# Altium footprint library TerminalBlock_Altech.PcbLib: 46 footprints (part 3 of 4)
Each footprint in its own frame and in the unit in brackets; x right, y up, seen from the top. Pads: shape width x height; smd on the part's side, far side on the other; paste and mask are expansions set on the pad; w line width, h text height; cw(c..) or ccw(c..) is an arc to the next point about the centre after c.
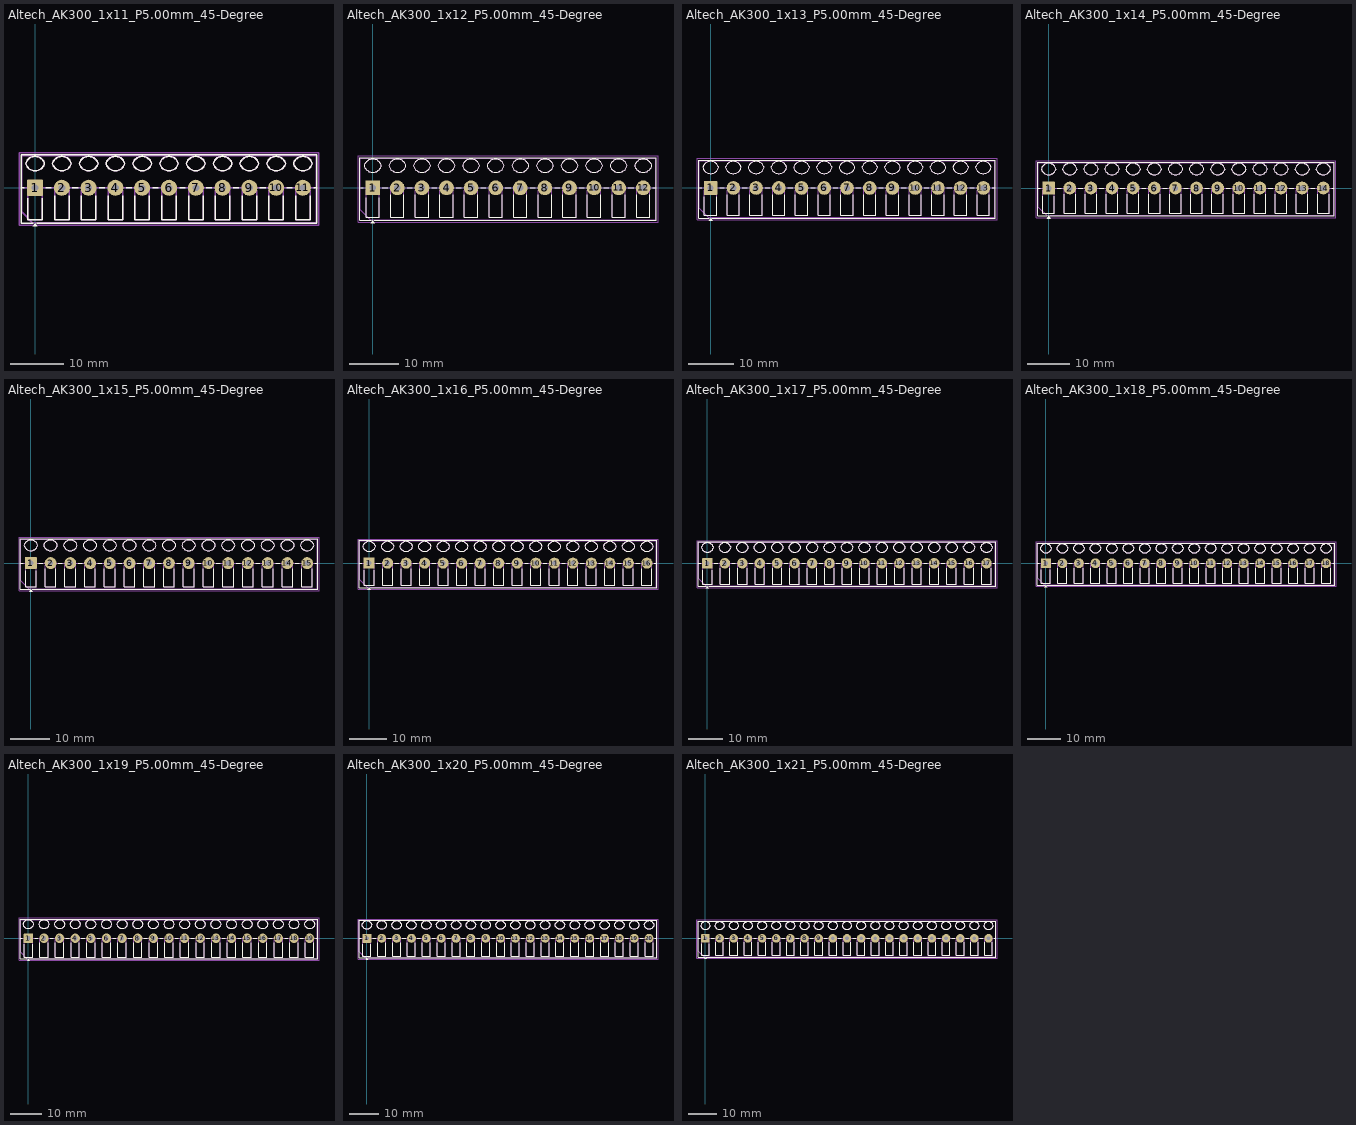
[diagram p2: the footprints below, top view; thin cyan lines are the x and y axes]

## Altech_AK300_1x11_P5.00mm_45-Degree [mm]
pads (11):
  rrect8% 3x3 hole 1.3: 1(0,0)
  round 3 hole 1.3: 2(5,0) 3(10,0) 4(15,0) 5(20,0) 6(25,0) 7(30,0) 8(35,0) 9(40,0) 10(45,0) 11(50,0)
F.SilkS:
  region: 0.44,-7.23 -0.44,-7.23 0,-6.62
  lines w0.254: -2.62,0 -1.98,0 ; -1.35,-1.98 -1.35,-6 1.35,-6 1.35,-1.98 ; -0.3,-6.62 -2.62,-6.62 -2.62,6.12 52.62,6.12 52.62,-6.62 0.3,-6.62 ; 1.98,0 3.02,0 ; 3.65,-1.448 3.65,-6 6.35,-6 6.35,-1.448 ; 6.98,0 8.02,0 ; 8.65,-1.448 8.65,-6 11.35,-6 11.35,-1.448 ; 11.98,0 13.02,0 ; 13.65,-1.448 13.65,-6 16.35,-6 16.35,-1.448 ; 16.98,0 18.02,0 ; 18.65,-1.448 18.65,-6 21.35,-6 21.35,-1.448 ; 21.98,0 23.02,0 ; 23.65,-1.448 23.65,-6 26.35,-6 26.35,-1.448 ; 26.98,0 28.02,0 ; 28.65,-1.448 28.65,-6 31.35,-6 31.35,-1.448 ; 31.98,0 33.02,0 ; 33.65,-1.448 33.65,-6 36.35,-6 36.35,-1.448 ; 36.98,0 38.02,0 ; 38.65,-1.448 38.65,-6 41.35,-6 41.35,-1.448 ; 41.98,0 43.02,0 ; 43.65,-1.448 43.65,-6 46.35,-6 46.35,-1.448 ; 46.98,0 48.02,0 ; 48.65,-1.448 48.65,-6 51.35,-6 51.35,-1.448 ; 51.98,0 52.62,0 ; -1.75,4.5 cw(c0,4.041) 1.75,4.5 cw(c0,4.959) -1.75,4.5 ; 3.25,4.5 cw(c5,4.041) 6.75,4.5 cw(c5,4.959) 3.25,4.5 ; 8.25,4.5 cw(c10,4.041) 11.75,4.5 cw(c10,4.959) 8.25,4.5 ; 13.25,4.5 cw(c15,4.041) 16.75,4.5 cw(c15,4.959) 13.25,4.5 ; 18.25,4.5 cw(c20,4.041) 21.75,4.5 cw(c20,4.959) 18.25,4.5 ; 23.25,4.5 cw(c25,4.041) 26.75,4.5 cw(c25,4.959) 23.25,4.5 ; 28.25,4.5 cw(c30,4.041) 31.75,4.5 cw(c30,4.959) 28.25,4.5 ; 33.25,4.5 cw(c35,4.041) 36.75,4.5 cw(c35,4.959) 33.25,4.5 ; 38.25,4.5 cw(c40,4.041) 41.75,4.5 cw(c40,4.959) 38.25,4.5 ; 43.25,4.5 cw(c45,4.041) 46.75,4.5 cw(c45,4.959) 43.25,4.5 ; 48.25,4.5 cw(c50,4.041) 51.75,4.5 cw(c50,4.959) 48.25,4.5
F.Fab:
  lines w0.254: -2.5,0 52.5,0 ; -2.5,-4.5 -2.5,6 52.5,6 52.5,-6.5 -0.5,-6.5 -2.5,-4.5 ; -1.75,4.5 cw(c0,4.041) 1.75,4.5 cw(c0,4.959) -1.75,4.5 ; -1.35,-6 -1.35,-0.5 1.35,-0.5 1.35,-6 -1.35,-6 ; 3.25,4.5 cw(c5,4.041) 6.75,4.5 cw(c5,4.959) 3.25,4.5 ; 3.65,-6 3.65,-0.5 6.35,-0.5 6.35,-6 3.65,-6 ; 8.25,4.5 cw(c10,4.041) 11.75,4.5 cw(c10,4.959) 8.25,4.5 ; 8.65,-6 8.65,-0.5 11.351,-0.5 11.351,-6 8.65,-6 ; 13.25,4.5 cw(c15,4.041) 16.75,4.5 cw(c15,4.959) 13.25,4.5 ; 13.65,-6 13.65,-0.5 16.351,-0.5 16.351,-6 13.65,-6 ; 18.25,4.5 cw(c20,4.041) 21.75,4.5 cw(c20,4.959) 18.25,4.5 ; 18.65,-6 18.65,-0.5 21.35,-0.5 21.35,-6 18.65,-6 ; 23.25,4.5 cw(c25,4.041) 26.75,4.5 cw(c25,4.959) 23.25,4.5 ; 23.65,-6 23.65,-0.5 26.35,-0.5 26.35,-6 23.65,-6 ; 28.25,4.5 cw(c30,4.041) 31.75,4.5 cw(c30,4.959) 28.25,4.5 ; 28.65,-6 28.65,-0.5 31.35,-0.5 31.35,-6 28.65,-6 ; 33.25,4.5 cw(c35,4.041) 36.75,4.5 cw(c35,4.959) 33.25,4.5 ; 33.65,-6 33.65,-0.5 36.35,-0.5 36.35,-6 33.65,-6 ; 38.25,4.5 cw(c40,4.041) 41.75,4.5 cw(c40,4.959) 38.25,4.5 ; 38.65,-6 38.65,-0.5 41.35,-0.5 41.35,-6 38.65,-6 ; 43.25,4.5 cw(c45,4.041) 46.75,4.5 cw(c45,4.959) 43.25,4.5 ; 43.65,-6 43.65,-0.5 46.35,-0.5 46.35,-6 43.65,-6 ; 48.25,4.5 cw(c50,4.041) 51.75,4.5 cw(c50,4.959) 48.25,4.5 ; 48.65,-6 48.65,-0.5 51.35,-0.5 51.35,-6 48.65,-6
  text "'.Designator'" at 20.953,0.11 h1
F.CrtYd:
  lines w0.254: -3,-7 -3,6.5 53,6.5 53,-7 -3,-7
3D body "Altech_AK300_1x11_P5.00mm_45-Degree.step": height 12.6, standoff -4.5, extent -2.5,-6.5 52.5,6

## Altech_AK300_1x12_P5.00mm_45-Degree [mm]
pads (12):
  rrect8% 3x3 hole 1.3: 1(0,0)
  round 3 hole 1.3: 2(5,0) 3(10,0) 4(15,0) 5(20,0) 6(25,0) 7(30,0) 8(35,0) 9(40,0) 10(45,0) 11(50,0) 12(55,0)
F.SilkS:
  region: 0.44,-7.23 -0.44,-7.23 0,-6.62
  lines w0.254: -2.62,0 -1.98,0 ; -1.35,-1.98 -1.35,-6 1.35,-6 1.35,-1.98 ; -0.3,-6.62 -2.62,-6.62 -2.62,6.12 57.62,6.12 57.62,-6.62 0.3,-6.62 ; 1.98,0 3.02,0 ; 3.65,-1.448 3.65,-6 6.35,-6 6.35,-1.448 ; 6.98,0 8.02,0 ; 8.65,-1.448 8.65,-6 11.35,-6 11.35,-1.448 ; 11.98,0 13.02,0 ; 13.65,-1.448 13.65,-6 16.35,-6 16.35,-1.448 ; 16.98,0 18.02,0 ; 18.65,-1.448 18.65,-6 21.35,-6 21.35,-1.448 ; 21.98,0 23.02,0 ; 23.65,-1.448 23.65,-6 26.35,-6 26.35,-1.448 ; 26.98,0 28.02,0 ; 28.65,-1.448 28.65,-6 31.35,-6 31.35,-1.448 ; 31.98,0 33.02,0 ; 33.65,-1.448 33.65,-6 36.35,-6 36.35,-1.448 ; 36.98,0 38.02,0 ; 38.65,-1.448 38.65,-6 41.35,-6 41.35,-1.448 ; 41.98,0 43.02,0 ; 43.65,-1.448 43.65,-6 46.35,-6 46.35,-1.448 ; 46.98,0 48.02,0 ; 48.65,-1.448 48.65,-6 51.35,-6 51.35,-1.448 ; 51.98,0 53.02,0 ; 53.65,-1.448 53.65,-6 56.35,-6 56.35,-1.448 ; 56.98,0 57.62,0 ; -1.75,4.5 cw(c0,4.041) 1.75,4.5 cw(c0,4.959) -1.75,4.5 ; 3.25,4.5 cw(c5,4.041) 6.75,4.5 cw(c5,4.959) 3.25,4.5 ; 8.25,4.5 cw(c10,4.041) 11.75,4.5 cw(c10,4.959) 8.25,4.5 ; 13.25,4.5 cw(c15,4.041) 16.75,4.5 cw(c15,4.959) 13.25,4.5 ; 18.25,4.5 cw(c20,4.041) 21.75,4.5 cw(c20,4.959) 18.25,4.5 ; 23.25,4.5 cw(c25,4.041) 26.75,4.5 cw(c25,4.959) 23.25,4.5 ; 28.25,4.5 cw(c30,4.041) 31.75,4.5 cw(c30,4.959) 28.25,4.5 ; 33.25,4.5 cw(c35,4.041) 36.75,4.5 cw(c35,4.959) 33.25,4.5 ; 38.25,4.5 cw(c40,4.041) 41.75,4.5 cw(c40,4.959) 38.25,4.5 ; 43.25,4.5 cw(c45,4.041) 46.75,4.5 cw(c45,4.959) 43.25,4.5 ; 48.25,4.5 cw(c50,4.041) 51.75,4.5 cw(c50,4.959) 48.25,4.5 ; 53.25,4.5 cw(c55,4.041) 56.75,4.5 cw(c55,4.959) 53.25,4.5
F.Fab:
  lines w0.254: -2.5,0 57.5,0 ; -2.5,-4.5 -2.5,6 57.5,6 57.5,-6.5 -0.5,-6.5 -2.5,-4.5 ; -1.75,4.5 cw(c0,4.041) 1.75,4.5 cw(c0,4.959) -1.75,4.5 ; -1.35,-6 -1.35,-0.5 1.35,-0.5 1.35,-6 -1.35,-6 ; 3.25,4.5 cw(c5,4.041) 6.75,4.5 cw(c5,4.959) 3.25,4.5 ; 3.65,-6 3.65,-0.5 6.35,-0.5 6.35,-6 3.65,-6 ; 8.25,4.5 cw(c10,4.041) 11.75,4.5 cw(c10,4.959) 8.25,4.5 ; 8.65,-6 8.65,-0.5 11.351,-0.5 11.351,-6 8.65,-6 ; 13.25,4.5 cw(c15,4.041) 16.75,4.5 cw(c15,4.959) 13.25,4.5 ; 13.65,-6 13.65,-0.5 16.351,-0.5 16.351,-6 13.65,-6 ; 18.25,4.5 cw(c20,4.041) 21.75,4.5 cw(c20,4.959) 18.25,4.5 ; 18.65,-6 18.65,-0.5 21.35,-0.5 21.35,-6 18.65,-6 ; 23.25,4.5 cw(c25,4.041) 26.75,4.5 cw(c25,4.959) 23.25,4.5 ; 23.65,-6 23.65,-0.5 26.35,-0.5 26.35,-6 23.65,-6 ; 28.25,4.5 cw(c30,4.041) 31.75,4.5 cw(c30,4.959) 28.25,4.5 ; 28.65,-6 28.65,-0.5 31.35,-0.5 31.35,-6 28.65,-6 ; 33.25,4.5 cw(c35,4.041) 36.75,4.5 cw(c35,4.959) 33.25,4.5 ; 33.65,-6 33.65,-0.5 36.35,-0.5 36.35,-6 33.65,-6 ; 38.25,4.5 cw(c40,4.041) 41.75,4.5 cw(c40,4.959) 38.25,4.5 ; 38.65,-6 38.65,-0.5 41.35,-0.5 41.35,-6 38.65,-6 ; 43.25,4.5 cw(c45,4.041) 46.75,4.5 cw(c45,4.959) 43.25,4.5 ; 43.65,-6 43.65,-0.5 46.35,-0.5 46.35,-6 43.65,-6 ; 48.25,4.5 cw(c50,4.041) 51.75,4.5 cw(c50,4.959) 48.25,4.5 ; 48.65,-6 48.65,-0.5 51.35,-0.5 51.35,-6 48.65,-6 ; 53.25,4.5 cw(c55,4.041) 56.75,4.5 cw(c55,4.959) 53.25,4.5 ; 53.65,-6 53.65,-0.5 56.35,-0.5 56.35,-6 53.65,-6
  text "'.Designator'" at 23.453,0.11 h1
F.CrtYd:
  lines w0.254: -3,-7 -3,6.5 58,6.5 58,-7 -3,-7
3D body "Altech_AK300_1x12_P5.00mm_45-Degree.step": height 12.6, standoff -4.5, extent -2.5,-6.5 57.5,6

## Altech_AK300_1x13_P5.00mm_45-Degree [mm]
pads (13):
  rrect8% 3x3 hole 1.3: 1(0,0)
  round 3 hole 1.3: 2(5,0) 3(10,0) 4(15,0) 5(20,0) 6(25,0) 7(30,0) 8(35,0) 9(40,0) 10(45,0) 11(50,0) 12(55,0) 13(60,0)
F.SilkS:
  region: 0.44,-7.23 -0.44,-7.23 0,-6.62
  lines w0.254: -2.62,0 -1.98,0 ; -1.35,-1.98 -1.35,-6 1.35,-6 1.35,-1.98 ; -0.3,-6.62 -2.62,-6.62 -2.62,6.12 62.62,6.12 62.62,-6.62 0.3,-6.62 ; 1.98,0 3.02,0 ; 3.65,-1.448 3.65,-6 6.35,-6 6.35,-1.448 ; 6.98,0 8.02,0 ; 8.65,-1.448 8.65,-6 11.35,-6 11.35,-1.448 ; 11.98,0 13.02,0 ; 13.65,-1.448 13.65,-6 16.35,-6 16.35,-1.448 ; 16.98,0 18.02,0 ; 18.65,-1.448 18.65,-6 21.35,-6 21.35,-1.448 ; 21.98,0 23.02,0 ; 23.65,-1.448 23.65,-6 26.35,-6 26.35,-1.448 ; 26.98,0 28.02,0 ; 28.65,-1.448 28.65,-6 31.35,-6 31.35,-1.448 ; 31.98,0 33.02,0 ; 33.65,-1.448 33.65,-6 36.35,-6 36.35,-1.448 ; 36.98,0 38.02,0 ; 38.65,-1.448 38.65,-6 41.35,-6 41.35,-1.448 ; 41.98,0 43.02,0 ; 43.65,-1.448 43.65,-6 46.35,-6 46.35,-1.448 ; 46.98,0 48.02,0 ; 48.65,-1.448 48.65,-6 51.35,-6 51.35,-1.448 ; 51.98,0 53.02,0 ; 53.65,-1.448 53.65,-6 56.35,-6 56.35,-1.448 ; 56.98,0 58.02,0 ; 58.65,-1.448 58.65,-6 61.35,-6 61.35,-1.448 ; 61.98,0 62.62,0 ; -1.75,4.5 cw(c0,4.041) 1.75,4.5 cw(c0,4.959) -1.75,4.5 ; 3.25,4.5 cw(c5,4.041) 6.75,4.5 cw(c5,4.959) 3.25,4.5 ; 8.25,4.5 cw(c10,4.041) 11.75,4.5 cw(c10,4.959) 8.25,4.5 ; 13.25,4.5 cw(c15,4.041) 16.75,4.5 cw(c15,4.959) 13.25,4.5 ; 18.25,4.5 cw(c20,4.041) 21.75,4.5 cw(c20,4.959) 18.25,4.5 ; 23.25,4.5 cw(c25,4.041) 26.75,4.5 cw(c25,4.959) 23.25,4.5 ; 28.25,4.5 cw(c30,4.041) 31.75,4.5 cw(c30,4.959) 28.25,4.5 ; 33.25,4.5 cw(c35,4.041) 36.75,4.5 cw(c35,4.959) 33.25,4.5 ; 38.25,4.5 cw(c40,4.041) 41.75,4.5 cw(c40,4.959) 38.25,4.5 ; 43.25,4.5 cw(c45,4.041) 46.75,4.5 cw(c45,4.959) 43.25,4.5 ; 48.25,4.5 cw(c50,4.041) 51.75,4.5 cw(c50,4.959) 48.25,4.5 ; 53.25,4.5 cw(c55,4.041) 56.75,4.5 cw(c55,4.959) 53.25,4.5 ; 58.25,4.5 cw(c60,4.041) 61.75,4.5 cw(c60,4.959) 58.25,4.5
F.Fab:
  lines w0.254: -2.5,0 62.5,0 ; -2.5,-4.5 -2.5,6 62.5,6 62.5,-6.5 -0.5,-6.5 -2.5,-4.5 ; -1.75,4.5 cw(c0,4.041) 1.75,4.5 cw(c0,4.959) -1.75,4.5 ; -1.35,-6 -1.35,-0.5 1.35,-0.5 1.35,-6 -1.35,-6 ; 3.25,4.5 cw(c5,4.041) 6.75,4.5 cw(c5,4.959) 3.25,4.5 ; 3.65,-6 3.65,-0.5 6.35,-0.5 6.35,-6 3.65,-6 ; 8.25,4.5 cw(c10,4.041) 11.75,4.5 cw(c10,4.959) 8.25,4.5 ; 8.65,-6 8.65,-0.5 11.351,-0.5 11.351,-6 8.65,-6 ; 13.25,4.5 cw(c15,4.041) 16.75,4.5 cw(c15,4.959) 13.25,4.5 ; 13.65,-6 13.65,-0.5 16.351,-0.5 16.351,-6 13.65,-6 ; 18.25,4.5 cw(c20,4.041) 21.75,4.5 cw(c20,4.959) 18.25,4.5 ; 18.65,-6 18.65,-0.5 21.35,-0.5 21.35,-6 18.65,-6 ; 23.25,4.5 cw(c25,4.041) 26.75,4.5 cw(c25,4.959) 23.25,4.5 ; 23.65,-6 23.65,-0.5 26.35,-0.5 26.35,-6 23.65,-6 ; 28.25,4.5 cw(c30,4.041) 31.75,4.5 cw(c30,4.959) 28.25,4.5 ; 28.65,-6 28.65,-0.5 31.35,-0.5 31.35,-6 28.65,-6 ; 33.25,4.5 cw(c35,4.041) 36.75,4.5 cw(c35,4.959) 33.25,4.5 ; 33.65,-6 33.65,-0.5 36.35,-0.5 36.35,-6 33.65,-6 ; 38.25,4.5 cw(c40,4.041) 41.75,4.5 cw(c40,4.959) 38.25,4.5 ; 38.65,-6 38.65,-0.5 41.35,-0.5 41.35,-6 38.65,-6 ; 43.25,4.5 cw(c45,4.041) 46.75,4.5 cw(c45,4.959) 43.25,4.5 ; 43.65,-6 43.65,-0.5 46.35,-0.5 46.35,-6 43.65,-6 ; 48.25,4.5 cw(c50,4.041) 51.75,4.5 cw(c50,4.959) 48.25,4.5 ; 48.65,-6 48.65,-0.5 51.35,-0.5 51.35,-6 48.65,-6 ; 53.25,4.5 cw(c55,4.041) 56.75,4.5 cw(c55,4.959) 53.25,4.5 ; 53.65,-6 53.65,-0.5 56.35,-0.5 56.35,-6 53.65,-6 ; 58.25,4.5 cw(c60,4.041) 61.75,4.5 cw(c60,4.959) 58.25,4.5 ; 58.65,-6 58.65,-0.5 61.35,-0.5 61.35,-6 58.65,-6
  text "'.Designator'" at 25.953,0.11 h1
F.CrtYd:
  lines w0.254: -3,-7 -3,6.5 63,6.5 63,-7 -3,-7
3D body "Altech_AK300_1x13_P5.00mm_45-Degree.step": height 12.6, standoff -4.5, extent -2.5,-6.5 62.5,6

## Altech_AK300_1x14_P5.00mm_45-Degree [mm]
pads (14):
  rrect8% 3x3 hole 1.3: 1(0,0)
  round 3 hole 1.3: 2(5,0) 3(10,0) 4(15,0) 5(20,0) 6(25,0) 7(30,0) 8(35,0) 9(40,0) 10(45,0) 11(50,0) 12(55,0) 13(60,0) 14(65,0)
F.SilkS:
  region: 0.44,-7.23 -0.44,-7.23 0,-6.62
  lines w0.254: -2.62,0 -1.98,0 ; -1.35,-1.98 -1.35,-6 1.35,-6 1.35,-1.98 ; -0.3,-6.62 -2.62,-6.62 -2.62,6.12 67.62,6.12 67.62,-6.62 0.3,-6.62 ; 1.98,0 3.02,0 ; 3.65,-1.448 3.65,-6 6.35,-6 6.35,-1.448 ; 6.98,0 8.02,0 ; 8.65,-1.448 8.65,-6 11.35,-6 11.35,-1.448 ; 11.98,0 13.02,0 ; 13.65,-1.448 13.65,-6 16.35,-6 16.35,-1.448 ; 16.98,0 18.02,0 ; 18.65,-1.448 18.65,-6 21.35,-6 21.35,-1.448 ; 21.98,0 23.02,0 ; 23.65,-1.448 23.65,-6 26.35,-6 26.35,-1.448 ; 26.98,0 28.02,0 ; 28.65,-1.448 28.65,-6 31.35,-6 31.35,-1.448 ; 31.98,0 33.02,0 ; 33.65,-1.448 33.65,-6 36.35,-6 36.35,-1.448 ; 36.98,0 38.02,0 ; 38.65,-1.448 38.65,-6 41.35,-6 41.35,-1.448 ; 41.98,0 43.02,0 ; 43.65,-1.448 43.65,-6 46.35,-6 46.35,-1.448 ; 46.98,0 48.02,0 ; 48.65,-1.448 48.65,-6 51.35,-6 51.35,-1.448 ; 51.98,0 53.02,0 ; 53.65,-1.448 53.65,-6 56.35,-6 56.35,-1.448 ; 56.98,0 58.02,0 ; 58.65,-1.448 58.65,-6 61.35,-6 61.35,-1.448 ; 61.98,0 63.02,0 ; 63.65,-1.448 63.65,-6 66.35,-6 66.35,-1.448 ; 66.98,0 67.62,0 ; -1.75,4.5 cw(c0,4.041) 1.75,4.5 cw(c0,4.959) -1.75,4.5 ; 3.25,4.5 cw(c5,4.041) 6.75,4.5 cw(c5,4.959) 3.25,4.5 ; 8.25,4.5 cw(c10,4.041) 11.75,4.5 cw(c10,4.959) 8.25,4.5 ; 13.25,4.5 cw(c15,4.041) 16.75,4.5 cw(c15,4.959) 13.25,4.5 ; 18.25,4.5 cw(c20,4.041) 21.75,4.5 cw(c20,4.959) 18.25,4.5 ; 23.25,4.5 cw(c25,4.041) 26.75,4.5 cw(c25,4.959) 23.25,4.5 ; 28.25,4.5 cw(c30,4.041) 31.75,4.5 cw(c30,4.959) 28.25,4.5 ; 33.25,4.5 cw(c35,4.041) 36.75,4.5 cw(c35,4.959) 33.25,4.5 ; 38.25,4.5 cw(c40,4.041) 41.75,4.5 cw(c40,4.959) 38.25,4.5 ; 43.25,4.5 cw(c45,4.041) 46.75,4.5 cw(c45,4.959) 43.25,4.5 ; 48.25,4.5 cw(c50,4.041) 51.75,4.5 cw(c50,4.959) 48.25,4.5 ; 53.25,4.5 cw(c55,4.041) 56.75,4.5 cw(c55,4.959) 53.25,4.5 ; 58.25,4.5 cw(c60,4.041) 61.75,4.5 cw(c60,4.959) 58.25,4.5 ; 63.25,4.5 cw(c65,4.041) 66.75,4.5 cw(c65,4.959) 63.25,4.5
F.Fab:
  lines w0.254: -2.5,0 67.5,0 ; -2.5,-4.5 -2.5,6 67.5,6 67.5,-6.5 -0.5,-6.5 -2.5,-4.5 ; -1.75,4.5 cw(c0,4.041) 1.75,4.5 cw(c0,4.959) -1.75,4.5 ; -1.35,-6 -1.35,-0.5 1.35,-0.5 1.35,-6 -1.35,-6 ; 3.25,4.5 cw(c5,4.041) 6.75,4.5 cw(c5,4.959) 3.25,4.5 ; 3.65,-6 3.65,-0.5 6.35,-0.5 6.35,-6 3.65,-6 ; 8.25,4.5 cw(c10,4.041) 11.75,4.5 cw(c10,4.959) 8.25,4.5 ; 8.65,-6 8.65,-0.5 11.351,-0.5 11.351,-6 8.65,-6 ; 13.25,4.5 cw(c15,4.041) 16.75,4.5 cw(c15,4.959) 13.25,4.5 ; 13.65,-6 13.65,-0.5 16.351,-0.5 16.351,-6 13.65,-6 ; 18.25,4.5 cw(c20,4.041) 21.75,4.5 cw(c20,4.959) 18.25,4.5 ; 18.65,-6 18.65,-0.5 21.35,-0.5 21.35,-6 18.65,-6 ; 23.25,4.5 cw(c25,4.041) 26.75,4.5 cw(c25,4.959) 23.25,4.5 ; 23.65,-6 23.65,-0.5 26.35,-0.5 26.35,-6 23.65,-6 ; 28.25,4.5 cw(c30,4.041) 31.75,4.5 cw(c30,4.959) 28.25,4.5 ; 28.65,-6 28.65,-0.5 31.35,-0.5 31.35,-6 28.65,-6 ; 33.25,4.5 cw(c35,4.041) 36.75,4.5 cw(c35,4.959) 33.25,4.5 ; 33.65,-6 33.65,-0.5 36.35,-0.5 36.35,-6 33.65,-6 ; 38.25,4.5 cw(c40,4.041) 41.75,4.5 cw(c40,4.959) 38.25,4.5 ; 38.65,-6 38.65,-0.5 41.35,-0.5 41.35,-6 38.65,-6 ; 43.25,4.5 cw(c45,4.041) 46.75,4.5 cw(c45,4.959) 43.25,4.5 ; 43.65,-6 43.65,-0.5 46.35,-0.5 46.35,-6 43.65,-6 ; 48.25,4.5 cw(c50,4.041) 51.75,4.5 cw(c50,4.959) 48.25,4.5 ; 48.65,-6 48.65,-0.5 51.35,-0.5 51.35,-6 48.65,-6 ; 53.25,4.5 cw(c55,4.041) 56.75,4.5 cw(c55,4.959) 53.25,4.5 ; 53.65,-6 53.65,-0.5 56.35,-0.5 56.35,-6 53.65,-6 ; 58.25,4.5 cw(c60,4.041) 61.75,4.5 cw(c60,4.959) 58.25,4.5 ; 58.65,-6 58.65,-0.5 61.35,-0.5 61.35,-6 58.65,-6 ; 63.25,4.5 cw(c65,4.041) 66.75,4.5 cw(c65,4.959) 63.25,4.5 ; 63.65,-6 63.65,-0.5 66.35,-0.5 66.35,-6 63.65,-6
  text "'.Designator'" at 28.453,0.11 h1
F.CrtYd:
  lines w0.254: -3,-7 -3,6.5 68,6.5 68,-7 -3,-7
3D body "Altech_AK300_1x14_P5.00mm_45-Degree.step": height 12.6, standoff -4.5, extent -2.5,-6.5 67.5,6

## Altech_AK300_1x15_P5.00mm_45-Degree [mm]
pads (15):
  rrect8% 3x3 hole 1.3: 1(0,0)
  round 3 hole 1.3: 2(5,0) 3(10,0) 4(15,0) 5(20,0) 6(25,0) 7(30,0) 8(35,0) 9(40,0) 10(45,0) 11(50,0) 12(55,0) 13(60,0) 14(65,0) 15(70,0)
F.SilkS:
  region: 0.44,-7.23 -0.44,-7.23 0,-6.62
  lines w0.254: -2.62,0 -1.98,0 ; -1.35,-1.98 -1.35,-6 1.35,-6 1.35,-1.98 ; -0.3,-6.62 -2.62,-6.62 -2.62,6.12 72.62,6.12 72.62,-6.62 0.3,-6.62 ; 1.98,0 3.02,0 ; 3.65,-1.448 3.65,-6 6.35,-6 6.35,-1.448 ; 6.98,0 8.02,0 ; 8.65,-1.448 8.65,-6 11.35,-6 11.35,-1.448 ; 11.98,0 13.02,0 ; 13.65,-1.448 13.65,-6 16.35,-6 16.35,-1.448 ; 16.98,0 18.02,0 ; 18.65,-1.448 18.65,-6 21.35,-6 21.35,-1.448 ; 21.98,0 23.02,0 ; 23.65,-1.448 23.65,-6 26.35,-6 26.35,-1.448 ; 26.98,0 28.02,0 ; 28.65,-1.448 28.65,-6 31.35,-6 31.35,-1.448 ; 31.98,0 33.02,0 ; 33.65,-1.448 33.65,-6 36.35,-6 36.35,-1.448 ; 36.98,0 38.02,0 ; 38.65,-1.448 38.65,-6 41.35,-6 41.35,-1.448 ; 41.98,0 43.02,0 ; 43.65,-1.448 43.65,-6 46.35,-6 46.35,-1.448 ; 46.98,0 48.02,0 ; 48.65,-1.448 48.65,-6 51.35,-6 51.35,-1.448 ; 51.98,0 53.02,0 ; 53.65,-1.448 53.65,-6 56.35,-6 56.35,-1.448 ; 56.98,0 58.02,0 ; 58.65,-1.448 58.65,-6 61.35,-6 61.35,-1.448 ; 61.98,0 63.02,0 ; 63.65,-1.448 63.65,-6 66.35,-6 66.35,-1.448 ; 66.98,0 68.02,0 ; 68.65,-1.448 68.65,-6 71.35,-6 71.35,-1.448 ; 71.98,0 72.62,0 ; -1.75,4.5 cw(c0,4.041) 1.75,4.5 cw(c0,4.959) -1.75,4.5 ; 3.25,4.5 cw(c5,4.041) 6.75,4.5 cw(c5,4.959) 3.25,4.5 ; 8.25,4.5 cw(c10,4.041) 11.75,4.5 cw(c10,4.959) 8.25,4.5 ; 13.25,4.5 cw(c15,4.041) 16.75,4.5 cw(c15,4.959) 13.25,4.5 ; 18.25,4.5 cw(c20,4.041) 21.75,4.5 cw(c20,4.959) 18.25,4.5 ; 23.25,4.5 cw(c25,4.041) 26.75,4.5 cw(c25,4.959) 23.25,4.5 ; 28.25,4.5 cw(c30,4.041) 31.75,4.5 cw(c30,4.959) 28.25,4.5 ; 33.25,4.5 cw(c35,4.041) 36.75,4.5 cw(c35,4.959) 33.25,4.5 ; 38.25,4.5 cw(c40,4.041) 41.75,4.5 cw(c40,4.959) 38.25,4.5 ; 43.25,4.5 cw(c45,4.041) 46.75,4.5 cw(c45,4.959) 43.25,4.5 ; 48.25,4.5 cw(c50,4.041) 51.75,4.5 cw(c50,4.959) 48.25,4.5 ; 53.25,4.5 cw(c55,4.041) 56.75,4.5 cw(c55,4.959) 53.25,4.5 ; 58.25,4.5 cw(c60,4.041) 61.75,4.5 cw(c60,4.959) 58.25,4.5 ; 63.25,4.5 cw(c65,4.041) 66.75,4.5 cw(c65,4.959) 63.25,4.5 ; 68.25,4.5 cw(c70,4.041) 71.75,4.5 cw(c70,4.959) 68.25,4.5
F.Fab:
  lines w0.254: -2.5,0 72.5,0 ; -2.5,-4.5 -2.5,6 72.5,6 72.5,-6.5 -0.5,-6.5 -2.5,-4.5 ; -1.75,4.5 cw(c0,4.041) 1.75,4.5 cw(c0,4.959) -1.75,4.5 ; -1.35,-6 -1.35,-0.5 1.35,-0.5 1.35,-6 -1.35,-6 ; 3.25,4.5 cw(c5,4.041) 6.75,4.5 cw(c5,4.959) 3.25,4.5 ; 3.65,-6 3.65,-0.5 6.35,-0.5 6.35,-6 3.65,-6 ; 8.25,4.5 cw(c10,4.041) 11.75,4.5 cw(c10,4.959) 8.25,4.5 ; 8.65,-6 8.65,-0.5 11.351,-0.5 11.351,-6 8.65,-6 ; 13.25,4.5 cw(c15,4.041) 16.75,4.5 cw(c15,4.959) 13.25,4.5 ; 13.65,-6 13.65,-0.5 16.351,-0.5 16.351,-6 13.65,-6 ; 18.25,4.5 cw(c20,4.041) 21.75,4.5 cw(c20,4.959) 18.25,4.5 ; 18.65,-6 18.65,-0.5 21.35,-0.5 21.35,-6 18.65,-6 ; 23.25,4.5 cw(c25,4.041) 26.75,4.5 cw(c25,4.959) 23.25,4.5 ; 23.65,-6 23.65,-0.5 26.35,-0.5 26.35,-6 23.65,-6 ; 28.25,4.5 cw(c30,4.041) 31.75,4.5 cw(c30,4.959) 28.25,4.5 ; 28.65,-6 28.65,-0.5 31.35,-0.5 31.35,-6 28.65,-6 ; 33.25,4.5 cw(c35,4.041) 36.75,4.5 cw(c35,4.959) 33.25,4.5 ; 33.65,-6 33.65,-0.5 36.35,-0.5 36.35,-6 33.65,-6 ; 38.25,4.5 cw(c40,4.041) 41.75,4.5 cw(c40,4.959) 38.25,4.5 ; 38.65,-6 38.65,-0.5 41.35,-0.5 41.35,-6 38.65,-6 ; 43.25,4.5 cw(c45,4.041) 46.75,4.5 cw(c45,4.959) 43.25,4.5 ; 43.65,-6 43.65,-0.5 46.35,-0.5 46.35,-6 43.65,-6 ; 48.25,4.5 cw(c50,4.041) 51.75,4.5 cw(c50,4.959) 48.25,4.5 ; 48.65,-6 48.65,-0.5 51.35,-0.5 51.35,-6 48.65,-6 ; 53.25,4.5 cw(c55,4.041) 56.75,4.5 cw(c55,4.959) 53.25,4.5 ; 53.65,-6 53.65,-0.5 56.35,-0.5 56.35,-6 53.65,-6 ; 58.25,4.5 cw(c60,4.041) 61.75,4.5 cw(c60,4.959) 58.25,4.5 ; 58.65,-6 58.65,-0.5 61.35,-0.5 61.35,-6 58.65,-6 ; 63.25,4.5 cw(c65,4.041) 66.75,4.5 cw(c65,4.959) 63.25,4.5 ; 63.65,-6 63.65,-0.5 66.35,-0.5 66.35,-6 63.65,-6 ; 68.25,4.5 cw(c70,4.041) 71.75,4.5 cw(c70,4.959) 68.25,4.5 ; 68.65,-6 68.65,-0.5 71.35,-0.5 71.35,-6 68.65,-6
  text "'.Designator'" at 30.953,0.11 h1
F.CrtYd:
  lines w0.254: -3,-7 -3,6.5 73,6.5 73,-7 -3,-7
3D body "Altech_AK300_1x15_P5.00mm_45-Degree.step": height 12.6, standoff -4.5, extent -2.5,-6.5 72.5,6

## Altech_AK300_1x16_P5.00mm_45-Degree [mm]
pads (16):
  rrect8% 3x3 hole 1.3: 1(0,0)
  round 3 hole 1.3: 2(5,0) 3(10,0) 4(15,0) 5(20,0) 6(25,0) 7(30,0) 8(35,0) 9(40,0) 10(45,0) 11(50,0) 12(55,0) 13(60,0) 14(65,0) 15(70,0) 16(75,0)
F.SilkS:
  region: 0.44,-7.23 -0.44,-7.23 0,-6.62
  lines w0.254: -2.62,0 -1.98,0 ; -1.35,-1.98 -1.35,-6 1.35,-6 1.35,-1.98 ; -0.3,-6.62 -2.62,-6.62 -2.62,6.12 77.62,6.12 77.62,-6.62 0.3,-6.62 ; 1.98,0 3.02,0 ; 3.65,-1.448 3.65,-6 6.35,-6 6.35,-1.448 ; 6.98,0 8.02,0 ; 8.65,-1.448 8.65,-6 11.35,-6 11.35,-1.448 ; 11.98,0 13.02,0 ; 13.65,-1.448 13.65,-6 16.35,-6 16.35,-1.448 ; 16.98,0 18.02,0 ; 18.65,-1.448 18.65,-6 21.35,-6 21.35,-1.448 ; 21.98,0 23.02,0 ; 23.65,-1.448 23.65,-6 26.35,-6 26.35,-1.448 ; 26.98,0 28.02,0 ; 28.65,-1.448 28.65,-6 31.35,-6 31.35,-1.448 ; 31.98,0 33.02,0 ; 33.65,-1.448 33.65,-6 36.35,-6 36.35,-1.448 ; 36.98,0 38.02,0 ; 38.65,-1.448 38.65,-6 41.35,-6 41.35,-1.448 ; 41.98,0 43.02,0 ; 43.65,-1.448 43.65,-6 46.35,-6 46.35,-1.448 ; 46.98,0 48.02,0 ; 48.65,-1.448 48.65,-6 51.35,-6 51.35,-1.448 ; 51.98,0 53.02,0 ; 53.65,-1.448 53.65,-6 56.35,-6 56.35,-1.448 ; 56.98,0 58.02,0 ; 58.65,-1.448 58.65,-6 61.35,-6 61.35,-1.448 ; 61.98,0 63.02,0 ; 63.65,-1.448 63.65,-6 66.35,-6 66.35,-1.448 ; 66.98,0 68.02,0 ; 68.65,-1.448 68.65,-6 71.35,-6 71.35,-1.448 ; 71.98,0 73.02,0 ; 73.65,-1.448 73.65,-6 76.35,-6 76.35,-1.448 ; 76.98,0 77.62,0 ; -1.75,4.5 cw(c0,4.041) 1.75,4.5 cw(c0,4.959) -1.75,4.5 ; 3.25,4.5 cw(c5,4.041) 6.75,4.5 cw(c5,4.959) 3.25,4.5 ; 8.25,4.5 cw(c10,4.041) 11.75,4.5 cw(c10,4.959) 8.25,4.5 ; 13.25,4.5 cw(c15,4.041) 16.75,4.5 cw(c15,4.959) 13.25,4.5 ; 18.25,4.5 cw(c20,4.041) 21.75,4.5 cw(c20,4.959) 18.25,4.5 ; 23.25,4.5 cw(c25,4.041) 26.75,4.5 cw(c25,4.959) 23.25,4.5 ; 28.25,4.5 cw(c30,4.041) 31.75,4.5 cw(c30,4.959) 28.25,4.5 ; 33.25,4.5 cw(c35,4.041) 36.75,4.5 cw(c35,4.959) 33.25,4.5 ; 38.25,4.5 cw(c40,4.041) 41.75,4.5 cw(c40,4.959) 38.25,4.5 ; 43.25,4.5 cw(c45,4.041) 46.75,4.5 cw(c45,4.959) 43.25,4.5 ; 48.25,4.5 cw(c50,4.041) 51.75,4.5 cw(c50,4.959) 48.25,4.5 ; 53.25,4.5 cw(c55,4.041) 56.75,4.5 cw(c55,4.959) 53.25,4.5 ; 58.25,4.5 cw(c60,4.041) 61.75,4.5 cw(c60,4.959) 58.25,4.5 ; 63.25,4.5 cw(c65,4.041) 66.75,4.5 cw(c65,4.959) 63.25,4.5 ; 68.25,4.5 cw(c70,4.041) 71.75,4.5 cw(c70,4.959) 68.25,4.5 ; 73.25,4.5 cw(c75,4.041) 76.75,4.5 cw(c75,4.959) 73.25,4.5
F.Fab:
  lines w0.254: -2.5,0 77.5,0 ; -2.5,-4.5 -2.5,6 77.5,6 77.5,-6.5 -0.5,-6.5 -2.5,-4.5 ; -1.75,4.5 cw(c0,4.041) 1.75,4.5 cw(c0,4.959) -1.75,4.5 ; -1.35,-6 -1.35,-0.5 1.35,-0.5 1.35,-6 -1.35,-6 ; 3.25,4.5 cw(c5,4.041) 6.75,4.5 cw(c5,4.959) 3.25,4.5 ; 3.65,-6 3.65,-0.5 6.35,-0.5 6.35,-6 3.65,-6 ; 8.25,4.5 cw(c10,4.041) 11.75,4.5 cw(c10,4.959) 8.25,4.5 ; 8.65,-6 8.65,-0.5 11.351,-0.5 11.351,-6 8.65,-6 ; 13.25,4.5 cw(c15,4.041) 16.75,4.5 cw(c15,4.959) 13.25,4.5 ; 13.65,-6 13.65,-0.5 16.351,-0.5 16.351,-6 13.65,-6 ; 18.25,4.5 cw(c20,4.041) 21.75,4.5 cw(c20,4.959) 18.25,4.5 ; 18.65,-6 18.65,-0.5 21.35,-0.5 21.35,-6 18.65,-6 ; 23.25,4.5 cw(c25,4.041) 26.75,4.5 cw(c25,4.959) 23.25,4.5 ; 23.65,-6 23.65,-0.5 26.35,-0.5 26.35,-6 23.65,-6 ; 28.25,4.5 cw(c30,4.041) 31.75,4.5 cw(c30,4.959) 28.25,4.5 ; 28.65,-6 28.65,-0.5 31.35,-0.5 31.35,-6 28.65,-6 ; 33.25,4.5 cw(c35,4.041) 36.75,4.5 cw(c35,4.959) 33.25,4.5 ; 33.65,-6 33.65,-0.5 36.35,-0.5 36.35,-6 33.65,-6 ; 38.25,4.5 cw(c40,4.041) 41.75,4.5 cw(c40,4.959) 38.25,4.5 ; 38.65,-6 38.65,-0.5 41.35,-0.5 41.35,-6 38.65,-6 ; 43.25,4.5 cw(c45,4.041) 46.75,4.5 cw(c45,4.959) 43.25,4.5 ; 43.65,-6 43.65,-0.5 46.35,-0.5 46.35,-6 43.65,-6 ; 48.25,4.5 cw(c50,4.041) 51.75,4.5 cw(c50,4.959) 48.25,4.5 ; 48.65,-6 48.65,-0.5 51.35,-0.5 51.35,-6 48.65,-6 ; 53.25,4.5 cw(c55,4.041) 56.75,4.5 cw(c55,4.959) 53.25,4.5 ; 53.65,-6 53.65,-0.5 56.35,-0.5 56.35,-6 53.65,-6 ; 58.25,4.5 cw(c60,4.041) 61.75,4.5 cw(c60,4.959) 58.25,4.5 ; 58.65,-6 58.65,-0.5 61.35,-0.5 61.35,-6 58.65,-6 ; 63.25,4.5 cw(c65,4.041) 66.75,4.5 cw(c65,4.959) 63.25,4.5 ; 63.65,-6 63.65,-0.5 66.35,-0.5 66.35,-6 63.65,-6 ; 68.25,4.5 cw(c70,4.041) 71.75,4.5 cw(c70,4.959) 68.25,4.5 ; 68.65,-6 68.65,-0.5 71.35,-0.5 71.35,-6 68.65,-6 ; 73.25,4.5 cw(c75,4.041) 76.75,4.5 cw(c75,4.959) 73.25,4.5 ; 73.65,-6 73.65,-0.5 76.35,-0.5 76.35,-6 73.65,-6
  text "'.Designator'" at 33.453,0.11 h1
F.CrtYd:
  lines w0.254: -3,-7 -3,6.5 78,6.5 78,-7 -3,-7
3D body "Altech_AK300_1x16_P5.00mm_45-Degree.step": height 12.6, standoff -4.5, extent -2.5,-6.5 77.5,6

## Altech_AK300_1x17_P5.00mm_45-Degree [mm]
pads (17):
  rrect8% 3x3 hole 1.3: 1(0,0)
  round 3 hole 1.3: 2(5,0) 3(10,0) 4(15,0) 5(20,0) 6(25,0) 7(30,0) 8(35,0) 9(40,0) 10(45,0) 11(50,0) 12(55,0) 13(60,0) 14(65,0) 15(70,0) 16(75,0) 17(80,0)
F.SilkS:
  region: 0.44,-7.23 -0.44,-7.23 0,-6.62
  lines w0.254: -2.62,0 -1.98,0 ; -1.35,-1.98 -1.35,-6 1.35,-6 1.35,-1.98 ; -0.3,-6.62 -2.62,-6.62 -2.62,6.12 82.62,6.12 82.62,-6.62 0.3,-6.62 ; 1.98,0 3.02,0 ; 3.65,-1.448 3.65,-6 6.35,-6 6.35,-1.448 ; 6.98,0 8.02,0 ; 8.65,-1.448 8.65,-6 11.35,-6 11.35,-1.448 ; 11.98,0 13.02,0 ; 13.65,-1.448 13.65,-6 16.35,-6 16.35,-1.448 ; 16.98,0 18.02,0 ; 18.65,-1.448 18.65,-6 21.35,-6 21.35,-1.448 ; 21.98,0 23.02,0 ; 23.65,-1.448 23.65,-6 26.35,-6 26.35,-1.448 ; 26.98,0 28.02,0 ; 28.65,-1.448 28.65,-6 31.35,-6 31.35,-1.448 ; 31.98,0 33.02,0 ; 33.65,-1.448 33.65,-6 36.35,-6 36.35,-1.448 ; 36.98,0 38.02,0 ; 38.65,-1.448 38.65,-6 41.35,-6 41.35,-1.448 ; 41.98,0 43.02,0 ; 43.65,-1.448 43.65,-6 46.35,-6 46.35,-1.448 ; 46.98,0 48.02,0 ; 48.65,-1.448 48.65,-6 51.35,-6 51.35,-1.448 ; 51.98,0 53.02,0 ; 53.65,-1.448 53.65,-6 56.35,-6 56.35,-1.448 ; 56.98,0 58.02,0 ; 58.65,-1.448 58.65,-6 61.35,-6 61.35,-1.448 ; 61.98,0 63.02,0 ; 63.65,-1.448 63.65,-6 66.35,-6 66.35,-1.448 ; 66.98,0 68.02,0 ; 68.65,-1.448 68.65,-6 71.35,-6 71.35,-1.448 ; 71.98,0 73.02,0 ; 73.65,-1.448 73.65,-6 76.35,-6 76.35,-1.448 ; 76.98,0 78.02,0 ; 78.65,-1.448 78.65,-6 81.35,-6 81.35,-1.448 ; 81.98,0 82.62,0 ; -1.75,4.5 ccw(c0,4.959) 1.75,4.5 ccw(c0,4.041) -1.75,4.5 ; 3.25,4.5 ccw(c5,4.959) 6.75,4.5 ccw(c5,4.041) 3.25,4.5 ; 8.25,4.5 ccw(c10,4.959) 11.75,4.5 ccw(c10,4.041) 8.25,4.5 ; 13.25,4.5 ccw(c15,4.959) 16.75,4.5 ccw(c15,4.041) 13.25,4.5 ; 18.25,4.5 ccw(c20,4.959) 21.75,4.5 ccw(c20,4.041) 18.25,4.5 ; 23.25,4.5 ccw(c25,4.959) 26.75,4.5 ccw(c25,4.041) 23.25,4.5 ; 28.25,4.5 ccw(c30,4.959) 31.75,4.5 ccw(c30,4.041) 28.25,4.5 ; 33.25,4.5 ccw(c35,4.959) 36.75,4.5 ccw(c35,4.041) 33.25,4.5 ; 38.25,4.5 ccw(c40,4.959) 41.75,4.5 ccw(c40,4.041) 38.25,4.5 ; 43.25,4.5 ccw(c45,4.959) 46.75,4.5 ccw(c45,4.041) 43.25,4.5 ; 48.25,4.5 ccw(c50,4.959) 51.75,4.5 ccw(c50,4.041) 48.25,4.5 ; 53.25,4.5 ccw(c55,4.959) 56.75,4.5 ccw(c55,4.041) 53.25,4.5 ; 58.25,4.5 ccw(c60,4.959) 61.75,4.5 ccw(c60,4.041) 58.25,4.5 ; 63.25,4.5 ccw(c65,4.959) 66.75,4.5 ccw(c65,4.041) 63.25,4.5 ; 68.25,4.5 ccw(c70,4.959) 71.75,4.5 ccw(c70,4.041) 68.25,4.5 ; 73.25,4.5 ccw(c75,4.959) 76.75,4.5 ccw(c75,4.041) 73.25,4.5 ; 78.25,4.5 ccw(c80,4.959) 81.75,4.5 ccw(c80,4.041) 78.25,4.5
F.Fab:
  lines w0.254: -2.5,0 82.5,0 ; -2.5,-4.5 -0.5,-6.5 82.5,-6.5 82.5,6 -2.5,6 -2.5,-4.5 ; -1.75,4.5 ccw(c0,4.959) 1.75,4.5 ccw(c0,4.041) -1.75,4.5 ; -1.35,-6 1.35,-6 1.35,-0.5 -1.35,-0.5 -1.35,-6 ; 3.25,4.5 ccw(c5,4.959) 6.75,4.5 ccw(c5,4.041) 3.25,4.5 ; 3.65,-6 6.35,-6 6.35,-0.5 3.65,-0.5 3.65,-6 ; 8.25,4.5 ccw(c10,4.959) 11.75,4.5 ccw(c10,4.041) 8.25,4.5 ; 8.65,-6 11.351,-6 11.351,-0.5 8.65,-0.5 8.65,-6 ; 13.25,4.5 ccw(c15,4.959) 16.75,4.5 ccw(c15,4.041) 13.25,4.5 ; 13.65,-6 16.351,-6 16.351,-0.5 13.65,-0.5 13.65,-6 ; 18.25,4.5 ccw(c20,4.959) 21.75,4.5 ccw(c20,4.041) 18.25,4.5 ; 18.65,-6 21.35,-6 21.35,-0.5 18.65,-0.5 18.65,-6 ; 23.25,4.5 ccw(c25,4.959) 26.75,4.5 ccw(c25,4.041) 23.25,4.5 ; 23.65,-6 26.35,-6 26.35,-0.5 23.65,-0.5 23.65,-6 ; 28.25,4.5 ccw(c30,4.959) 31.75,4.5 ccw(c30,4.041) 28.25,4.5 ; 28.65,-6 31.35,-6 31.35,-0.5 28.65,-0.5 28.65,-6 ; 33.25,4.5 ccw(c35,4.959) 36.75,4.5 ccw(c35,4.041) 33.25,4.5 ; 33.65,-6 36.35,-6 36.35,-0.5 33.65,-0.5 33.65,-6 ; 38.25,4.5 ccw(c40,4.959) 41.75,4.5 ccw(c40,4.041) 38.25,4.5 ; 38.65,-6 41.35,-6 41.35,-0.5 38.65,-0.5 38.65,-6 ; 43.25,4.5 ccw(c45,4.959) 46.75,4.5 ccw(c45,4.041) 43.25,4.5 ; 43.65,-6 46.35,-6 46.35,-0.5 43.65,-0.5 43.65,-6 ; 48.25,4.5 ccw(c50,4.959) 51.75,4.5 ccw(c50,4.041) 48.25,4.5 ; 48.65,-6 51.35,-6 51.35,-0.5 48.65,-0.5 48.65,-6 ; 53.25,4.5 ccw(c55,4.959) 56.75,4.5 ccw(c55,4.041) 53.25,4.5 ; 53.65,-6 56.35,-6 56.35,-0.5 53.65,-0.5 53.65,-6 ; 58.25,4.5 ccw(c60,4.959) 61.75,4.5 ccw(c60,4.041) 58.25,4.5 ; 58.65,-6 61.35,-6 61.35,-0.5 58.65,-0.5 58.65,-6 ; 63.25,4.5 ccw(c65,4.959) 66.75,4.5 ccw(c65,4.041) 63.25,4.5 ; 63.65,-6 66.35,-6 66.35,-0.5 63.65,-0.5 63.65,-6 ; 68.25,4.5 ccw(c70,4.959) 71.75,4.5 ccw(c70,4.041) 68.25,4.5 ; 68.65,-6 71.35,-6 71.35,-0.5 68.65,-0.5 68.65,-6 ; 73.25,4.5 ccw(c75,4.959) 76.75,4.5 ccw(c75,4.041) 73.25,4.5 ; 73.65,-6 76.35,-6 76.35,-0.5 73.65,-0.5 73.65,-6 ; 78.25,4.5 ccw(c80,4.959) 81.75,4.5 ccw(c80,4.041) 78.25,4.5 ; 78.65,-6 81.35,-6 81.35,-0.5 78.65,-0.5 78.65,-6
  text "'.Designator'" at 35.953,0.11 h1
F.CrtYd:
  lines w0.254: -3,-7 83,-7 83,6.5 -3,6.5 -3,-7
3D body "Altech_AK300_1x17_P5.00mm_45-Degree.step": height 12.6, standoff -4.5, extent -2.5,-6.5 82.5,6

## Altech_AK300_1x18_P5.00mm_45-Degree [mm]
pads (18):
  rrect8% 3x3 hole 1.3: 1(0,0)
  round 3 hole 1.3: 2(5,0) 3(10,0) 4(15,0) 5(20,0) 6(25,0) 7(30,0) 8(35,0) 9(40,0) 10(45,0) 11(50,0) 12(55,0) 13(60,0) 14(65,0) 15(70,0) 16(75,0) 17(80,0) 18(85,0)
F.SilkS:
  region: 0.44,-7.23 -0.44,-7.23 0,-6.62
  lines w0.254: -2.62,0 -1.98,0 ; -1.35,-1.98 -1.35,-6 1.35,-6 1.35,-1.98 ; -0.3,-6.62 -2.62,-6.62 -2.62,6.12 87.62,6.12 87.62,-6.62 0.3,-6.62 ; 1.98,0 3.02,0 ; 3.65,-1.448 3.65,-6 6.35,-6 6.35,-1.448 ; 6.98,0 8.02,0 ; 8.65,-1.448 8.65,-6 11.35,-6 11.35,-1.448 ; 11.98,0 13.02,0 ; 13.65,-1.448 13.65,-6 16.35,-6 16.35,-1.448 ; 16.98,0 18.02,0 ; 18.65,-1.448 18.65,-6 21.35,-6 21.35,-1.448 ; 21.98,0 23.02,0 ; 23.65,-1.448 23.65,-6 26.35,-6 26.35,-1.448 ; 26.98,0 28.02,0 ; 28.65,-1.448 28.65,-6 31.35,-6 31.35,-1.448 ; 31.98,0 33.02,0 ; 33.65,-1.448 33.65,-6 36.35,-6 36.35,-1.448 ; 36.98,0 38.02,0 ; 38.65,-1.448 38.65,-6 41.35,-6 41.35,-1.448 ; 41.98,0 43.02,0 ; 43.65,-1.448 43.65,-6 46.35,-6 46.35,-1.448 ; 46.98,0 48.02,0 ; 48.65,-1.448 48.65,-6 51.35,-6 51.35,-1.448 ; 51.98,0 53.02,0 ; 53.65,-1.448 53.65,-6 56.35,-6 56.35,-1.448 ; 56.98,0 58.02,0 ; 58.65,-1.448 58.65,-6 61.35,-6 61.35,-1.448 ; 61.98,0 63.02,0 ; 63.65,-1.448 63.65,-6 66.35,-6 66.35,-1.448 ; 66.98,0 68.02,0 ; 68.65,-1.448 68.65,-6 71.35,-6 71.35,-1.448 ; 71.98,0 73.02,0 ; 73.65,-1.448 73.65,-6 76.35,-6 76.35,-1.448 ; 76.98,0 78.02,0 ; 78.65,-1.448 78.65,-6 81.35,-6 81.35,-1.448 ; 81.98,0 83.02,0 ; 83.65,-1.448 83.65,-6 86.35,-6 86.35,-1.448 ; 86.98,0 87.62,0 ; -1.75,4.5 cw(c0,4.041) 1.75,4.5 cw(c0,4.959) -1.75,4.5 ; 3.25,4.5 cw(c5,4.041) 6.75,4.5 cw(c5,4.959) 3.25,4.5 ; 8.25,4.5 cw(c10,4.041) 11.75,4.5 cw(c10,4.959) 8.25,4.5 ; 13.25,4.5 cw(c15,4.041) 16.75,4.5 cw(c15,4.959) 13.25,4.5 ; 18.25,4.5 cw(c20,4.041) 21.75,4.5 cw(c20,4.959) 18.25,4.5 ; 23.25,4.5 cw(c25,4.041) 26.75,4.5 cw(c25,4.959) 23.25,4.5 ; 28.25,4.5 cw(c30,4.041) 31.75,4.5 cw(c30,4.959) 28.25,4.5 ; 33.25,4.5 cw(c35,4.041) 36.75,4.5 cw(c35,4.959) 33.25,4.5 ; 38.25,4.5 cw(c40,4.041) 41.75,4.5 cw(c40,4.959) 38.25,4.5 ; 43.25,4.5 cw(c45,4.041) 46.75,4.5 cw(c45,4.959) 43.25,4.5 ; 48.25,4.5 cw(c50,4.041) 51.75,4.5 cw(c50,4.959) 48.25,4.5 ; 53.25,4.5 cw(c55,4.041) 56.75,4.5 cw(c55,4.959) 53.25,4.5 ; 58.25,4.5 cw(c60,4.041) 61.75,4.5 cw(c60,4.959) 58.25,4.5 ; 63.25,4.5 cw(c65,4.041) 66.75,4.5 cw(c65,4.959) 63.25,4.5 ; 68.25,4.5 cw(c70,4.041) 71.75,4.5 cw(c70,4.959) 68.25,4.5 ; 73.25,4.5 cw(c75,4.041) 76.75,4.5 cw(c75,4.959) 73.25,4.5 ; 78.25,4.5 cw(c80,4.041) 81.75,4.5 cw(c80,4.959) 78.25,4.5 ; 83.25,4.5 cw(c85,4.041) 86.75,4.5 cw(c85,4.959) 83.25,4.5
F.Fab:
  lines w0.254: -2.5,0 87.5,0 ; -2.5,-4.5 -2.5,6 87.5,6 87.5,-6.5 -0.5,-6.5 -2.5,-4.5 ; -1.75,4.5 cw(c0,4.041) 1.75,4.5 cw(c0,4.959) -1.75,4.5 ; -1.35,-6 -1.35,-0.5 1.35,-0.5 1.35,-6 -1.35,-6 ; 3.25,4.5 cw(c5,4.041) 6.75,4.5 cw(c5,4.959) 3.25,4.5 ; 3.65,-6 3.65,-0.5 6.35,-0.5 6.35,-6 3.65,-6 ; 8.25,4.5 cw(c10,4.041) 11.75,4.5 cw(c10,4.959) 8.25,4.5 ; 8.65,-6 8.65,-0.5 11.351,-0.5 11.351,-6 8.65,-6 ; 13.25,4.5 cw(c15,4.041) 16.75,4.5 cw(c15,4.959) 13.25,4.5 ; 13.65,-6 13.65,-0.5 16.351,-0.5 16.351,-6 13.65,-6 ; 18.25,4.5 cw(c20,4.041) 21.75,4.5 cw(c20,4.959) 18.25,4.5 ; 18.65,-6 18.65,-0.5 21.35,-0.5 21.35,-6 18.65,-6 ; 23.25,4.5 cw(c25,4.041) 26.75,4.5 cw(c25,4.959) 23.25,4.5 ; 23.65,-6 23.65,-0.5 26.35,-0.5 26.35,-6 23.65,-6 ; 28.25,4.5 cw(c30,4.041) 31.75,4.5 cw(c30,4.959) 28.25,4.5 ; 28.65,-6 28.65,-0.5 31.35,-0.5 31.35,-6 28.65,-6 ; 33.25,4.5 cw(c35,4.041) 36.75,4.5 cw(c35,4.959) 33.25,4.5 ; 33.65,-6 33.65,-0.5 36.35,-0.5 36.35,-6 33.65,-6 ; 38.25,4.5 cw(c40,4.041) 41.75,4.5 cw(c40,4.959) 38.25,4.5 ; 38.65,-6 38.65,-0.5 41.35,-0.5 41.35,-6 38.65,-6 ; 43.25,4.5 cw(c45,4.041) 46.75,4.5 cw(c45,4.959) 43.25,4.5 ; 43.65,-6 43.65,-0.5 46.35,-0.5 46.35,-6 43.65,-6 ; 48.25,4.5 cw(c50,4.041) 51.75,4.5 cw(c50,4.959) 48.25,4.5 ; 48.65,-6 48.65,-0.5 51.35,-0.5 51.35,-6 48.65,-6 ; 53.25,4.5 cw(c55,4.041) 56.75,4.5 cw(c55,4.959) 53.25,4.5 ; 53.65,-6 53.65,-0.5 56.35,-0.5 56.35,-6 53.65,-6 ; 58.25,4.5 cw(c60,4.041) 61.75,4.5 cw(c60,4.959) 58.25,4.5 ; 58.65,-6 58.65,-0.5 61.35,-0.5 61.35,-6 58.65,-6 ; 63.25,4.5 cw(c65,4.041) 66.75,4.5 cw(c65,4.959) 63.25,4.5 ; 63.65,-6 63.65,-0.5 66.35,-0.5 66.35,-6 63.65,-6 ; 68.25,4.5 cw(c70,4.041) 71.75,4.5 cw(c70,4.959) 68.25,4.5 ; 68.65,-6 68.65,-0.5 71.35,-0.5 71.35,-6 68.65,-6 ; 73.25,4.5 cw(c75,4.041) 76.75,4.5 cw(c75,4.959) 73.25,4.5 ; 73.65,-6 73.65,-0.5 76.35,-0.5 76.35,-6 73.65,-6 ; 78.25,4.5 cw(c80,4.041) 81.75,4.5 cw(c80,4.959) 78.25,4.5 ; 78.65,-6 78.65,-0.5 81.35,-0.5 81.35,-6 78.65,-6 ; 83.25,4.5 cw(c85,4.041) 86.75,4.5 cw(c85,4.959) 83.25,4.5 ; 83.65,-6 83.65,-0.5 86.35,-0.5 86.35,-6 83.65,-6
  text "'.Designator'" at 38.453,0.11 h1
F.CrtYd:
  lines w0.254: -3,-7 -3,6.5 88,6.5 88,-7 -3,-7
3D body "Altech_AK300_1x18_P5.00mm_45-Degree.step": height 12.6, standoff -4.5, extent -2.5,-6.5 87.5,6

## Altech_AK300_1x19_P5.00mm_45-Degree [mm]
pads (19):
  rrect8% 3x3 hole 1.3: 1(0,0)
  round 3 hole 1.3: 2(5,0) 3(10,0) 4(15,0) 5(20,0) 6(25,0) 7(30,0) 8(35,0) 9(40,0) 10(45,0) 11(50,0) 12(55,0) 13(60,0) 14(65,0) 15(70,0) 16(75,0) 17(80,0) 18(85,0) 19(90,0)
F.SilkS:
  region: 0.44,-7.23 -0.44,-7.23 0,-6.62
  lines w0.254: -2.62,0 -1.98,0 ; -1.35,-1.98 -1.35,-6 1.35,-6 1.35,-1.98 ; -0.3,-6.62 -2.62,-6.62 -2.62,6.12 92.62,6.12 92.62,-6.62 0.3,-6.62 ; 1.98,0 3.02,0 ; 3.65,-1.448 3.65,-6 6.35,-6 6.35,-1.448 ; 6.98,0 8.02,0 ; 8.65,-1.448 8.65,-6 11.35,-6 11.35,-1.448 ; 11.98,0 13.02,0 ; 13.65,-1.448 13.65,-6 16.35,-6 16.35,-1.448 ; 16.98,0 18.02,0 ; 18.65,-1.448 18.65,-6 21.35,-6 21.35,-1.448 ; 21.98,0 23.02,0 ; 23.65,-1.448 23.65,-6 26.35,-6 26.35,-1.448 ; 26.98,0 28.02,0 ; 28.65,-1.448 28.65,-6 31.35,-6 31.35,-1.448 ; 31.98,0 33.02,0 ; 33.65,-1.448 33.65,-6 36.35,-6 36.35,-1.448 ; 36.98,0 38.02,0 ; 38.65,-1.448 38.65,-6 41.35,-6 41.35,-1.448 ; 41.98,0 43.02,0 ; 43.65,-1.448 43.65,-6 46.35,-6 46.35,-1.448 ; 46.98,0 48.02,0 ; 48.65,-1.448 48.65,-6 51.35,-6 51.35,-1.448 ; 51.98,0 53.02,0 ; 53.65,-1.448 53.65,-6 56.35,-6 56.35,-1.448 ; 56.98,0 58.02,0 ; 58.65,-1.448 58.65,-6 61.35,-6 61.35,-1.448 ; 61.98,0 63.02,0 ; 63.65,-1.448 63.65,-6 66.35,-6 66.35,-1.448 ; 66.98,0 68.02,0 ; 68.65,-1.448 68.65,-6 71.35,-6 71.35,-1.448 ; 71.98,0 73.02,0 ; 73.65,-1.448 73.65,-6 76.35,-6 76.35,-1.448 ; 76.98,0 78.02,0 ; 78.65,-1.448 78.65,-6 81.35,-6 81.35,-1.448 ; 81.98,0 83.02,0 ; 83.65,-1.448 83.65,-6 86.35,-6 86.35,-1.448 ; 86.98,0 88.02,0 ; 88.65,-1.448 88.65,-6 91.35,-6 91.35,-1.448 ; 91.98,0 92.62,0 ; -1.75,4.5 cw(c0,4.041) 1.75,4.5 cw(c0,4.959) -1.75,4.5 ; 3.25,4.5 cw(c5,4.041) 6.75,4.5 cw(c5,4.959) 3.25,4.5 ; 8.25,4.5 cw(c10,4.041) 11.75,4.5 cw(c10,4.959) 8.25,4.5 ; 13.25,4.5 cw(c15,4.041) 16.75,4.5 cw(c15,4.959) 13.25,4.5 ; 18.25,4.5 cw(c20,4.041) 21.75,4.5 cw(c20,4.959) 18.25,4.5 ; 23.25,4.5 cw(c25,4.041) 26.75,4.5 cw(c25,4.959) 23.25,4.5 ; 28.25,4.5 cw(c30,4.041) 31.75,4.5 cw(c30,4.959) 28.25,4.5 ; 33.25,4.5 cw(c35,4.041) 36.75,4.5 cw(c35,4.959) 33.25,4.5 ; 38.25,4.5 cw(c40,4.041) 41.75,4.5 cw(c40,4.959) 38.25,4.5 ; 43.25,4.5 cw(c45,4.041) 46.75,4.5 cw(c45,4.959) 43.25,4.5 ; 48.25,4.5 cw(c50,4.041) 51.75,4.5 cw(c50,4.959) 48.25,4.5 ; 53.25,4.5 cw(c55,4.041) 56.75,4.5 cw(c55,4.959) 53.25,4.5 ; 58.25,4.5 cw(c60,4.041) 61.75,4.5 cw(c60,4.959) 58.25,4.5 ; 63.25,4.5 cw(c65,4.041) 66.75,4.5 cw(c65,4.959) 63.25,4.5 ; 68.25,4.5 cw(c70,4.041) 71.75,4.5 cw(c70,4.959) 68.25,4.5 ; 73.25,4.5 cw(c75,4.041) 76.75,4.5 cw(c75,4.959) 73.25,4.5 ; 78.25,4.5 cw(c80,4.041) 81.75,4.5 cw(c80,4.959) 78.25,4.5 ; 83.25,4.5 cw(c85,4.041) 86.75,4.5 cw(c85,4.959) 83.25,4.5 ; 88.25,4.5 cw(c90,4.041) 91.75,4.5 cw(c90,4.959) 88.25,4.5
F.Fab:
  lines w0.254: -2.5,0 92.5,0 ; -2.5,-4.5 -2.5,6 92.5,6 92.5,-6.5 -0.5,-6.5 -2.5,-4.5 ; -1.75,4.5 cw(c0,4.041) 1.75,4.5 cw(c0,4.959) -1.75,4.5 ; -1.35,-6 -1.35,-0.5 1.35,-0.5 1.35,-6 -1.35,-6 ; 3.25,4.5 cw(c5,4.041) 6.75,4.5 cw(c5,4.959) 3.25,4.5 ; 3.65,-6 3.65,-0.5 6.35,-0.5 6.35,-6 3.65,-6 ; 8.25,4.5 cw(c10,4.041) 11.75,4.5 cw(c10,4.959) 8.25,4.5 ; 8.65,-6 8.65,-0.5 11.351,-0.5 11.351,-6 8.65,-6 ; 13.25,4.5 cw(c15,4.041) 16.75,4.5 cw(c15,4.959) 13.25,4.5 ; 13.65,-6 13.65,-0.5 16.351,-0.5 16.351,-6 13.65,-6 ; 18.25,4.5 cw(c20,4.041) 21.75,4.5 cw(c20,4.959) 18.25,4.5 ; 18.65,-6 18.65,-0.5 21.35,-0.5 21.35,-6 18.65,-6 ; 23.25,4.5 cw(c25,4.041) 26.75,4.5 cw(c25,4.959) 23.25,4.5 ; 23.65,-6 23.65,-0.5 26.35,-0.5 26.35,-6 23.65,-6 ; 28.25,4.5 cw(c30,4.041) 31.75,4.5 cw(c30,4.959) 28.25,4.5 ; 28.65,-6 28.65,-0.5 31.35,-0.5 31.35,-6 28.65,-6 ; 33.25,4.5 cw(c35,4.041) 36.75,4.5 cw(c35,4.959) 33.25,4.5 ; 33.65,-6 33.65,-0.5 36.35,-0.5 36.35,-6 33.65,-6 ; 38.25,4.5 cw(c40,4.041) 41.75,4.5 cw(c40,4.959) 38.25,4.5 ; 38.65,-6 38.65,-0.5 41.35,-0.5 41.35,-6 38.65,-6 ; 43.25,4.5 cw(c45,4.041) 46.75,4.5 cw(c45,4.959) 43.25,4.5 ; 43.65,-6 43.65,-0.5 46.35,-0.5 46.35,-6 43.65,-6 ; 48.25,4.5 cw(c50,4.041) 51.75,4.5 cw(c50,4.959) 48.25,4.5 ; 48.65,-6 48.65,-0.5 51.35,-0.5 51.35,-6 48.65,-6 ; 53.25,4.5 cw(c55,4.041) 56.75,4.5 cw(c55,4.959) 53.25,4.5 ; 53.65,-6 53.65,-0.5 56.35,-0.5 56.35,-6 53.65,-6 ; 58.25,4.5 cw(c60,4.041) 61.75,4.5 cw(c60,4.959) 58.25,4.5 ; 58.65,-6 58.65,-0.5 61.35,-0.5 61.35,-6 58.65,-6 ; 63.25,4.5 cw(c65,4.041) 66.75,4.5 cw(c65,4.959) 63.25,4.5 ; 63.65,-6 63.65,-0.5 66.35,-0.5 66.35,-6 63.65,-6 ; 68.25,4.5 cw(c70,4.041) 71.75,4.5 cw(c70,4.959) 68.25,4.5 ; 68.65,-6 68.65,-0.5 71.35,-0.5 71.35,-6 68.65,-6 ; 73.25,4.5 cw(c75,4.041) 76.75,4.5 cw(c75,4.959) 73.25,4.5 ; 73.65,-6 73.65,-0.5 76.35,-0.5 76.35,-6 73.65,-6 ; 78.25,4.5 cw(c80,4.041) 81.75,4.5 cw(c80,4.959) 78.25,4.5 ; 78.65,-6 78.65,-0.5 81.35,-0.5 81.35,-6 78.65,-6 ; 83.25,4.5 cw(c85,4.041) 86.75,4.5 cw(c85,4.959) 83.25,4.5 ; 83.65,-6 83.65,-0.5 86.35,-0.5 86.35,-6 83.65,-6 ; 88.25,4.5 cw(c90,4.041) 91.75,4.5 cw(c90,4.959) 88.25,4.5 ; 88.65,-6 88.65,-0.5 91.35,-0.5 91.35,-6 88.65,-6
  text "'.Designator'" at 40.953,0.11 h1
F.CrtYd:
  lines w0.254: -3,-7 -3,6.5 93,6.5 93,-7 -3,-7
3D body "Altech_AK300_1x19_P5.00mm_45-Degree.step": height 12.6, standoff -4.5, extent -2.5,-6.5 92.5,6

## Altech_AK300_1x20_P5.00mm_45-Degree [mm]
pads (20):
  rrect8% 3x3 hole 1.3: 1(0,0)
  round 3 hole 1.3: 2(5,0) 3(10,0) 4(15,0) 5(20,0) 6(25,0) 7(30,0) 8(35,0) 9(40,0) 10(45,0) 11(50,0) 12(55,0) 13(60,0) 14(65,0) 15(70,0) 16(75,0) 17(80,0) 18(85,0) 19(90,0) 20(95,0)
F.SilkS:
  region: 0.44,-7.23 -0.44,-7.23 0,-6.62
  lines w0.254: -2.62,0 -1.98,0 ; -1.35,-1.98 -1.35,-6 1.35,-6 1.35,-1.98 ; -0.3,-6.62 -2.62,-6.62 -2.62,6.12 97.62,6.12 97.62,-6.62 0.3,-6.62 ; 1.98,0 3.02,0 ; 3.65,-1.448 3.65,-6 6.35,-6 6.35,-1.448 ; 6.98,0 8.02,0 ; 8.65,-1.448 8.65,-6 11.35,-6 11.35,-1.448 ; 11.98,0 13.02,0 ; 13.65,-1.448 13.65,-6 16.35,-6 16.35,-1.448 ; 16.98,0 18.02,0 ; 18.65,-1.448 18.65,-6 21.35,-6 21.35,-1.448 ; 21.98,0 23.02,0 ; 23.65,-1.448 23.65,-6 26.35,-6 26.35,-1.448 ; 26.98,0 28.02,0 ; 28.65,-1.448 28.65,-6 31.35,-6 31.35,-1.448 ; 31.98,0 33.02,0 ; 33.65,-1.448 33.65,-6 36.35,-6 36.35,-1.448 ; 36.98,0 38.02,0 ; 38.65,-1.448 38.65,-6 41.35,-6 41.35,-1.448 ; 41.98,0 43.02,0 ; 43.65,-1.448 43.65,-6 46.35,-6 46.35,-1.448 ; 46.98,0 48.02,0 ; 48.65,-1.448 48.65,-6 51.35,-6 51.35,-1.448 ; 51.98,0 53.02,0 ; 53.65,-1.448 53.65,-6 56.35,-6 56.35,-1.448 ; 56.98,0 58.02,0 ; 58.65,-1.448 58.65,-6 61.35,-6 61.35,-1.448 ; 61.98,0 63.02,0 ; 63.65,-1.448 63.65,-6 66.35,-6 66.35,-1.448 ; 66.98,0 68.02,0 ; 68.65,-1.448 68.65,-6 71.35,-6 71.35,-1.448 ; 71.98,0 73.02,0 ; 73.65,-1.448 73.65,-6 76.35,-6 76.35,-1.448 ; 76.98,0 78.02,0 ; 78.65,-1.448 78.65,-6 81.35,-6 81.35,-1.448 ; 81.98,0 83.02,0 ; 83.65,-1.448 83.65,-6 86.35,-6 86.35,-1.448 ; 86.98,0 88.02,0 ; 88.65,-1.448 88.65,-6 91.35,-6 91.35,-1.448 ; 91.98,0 93.02,0 ; 93.65,-1.448 93.65,-6 96.35,-6 96.35,-1.448 ; 96.98,0 97.62,0 ; -1.75,4.5 cw(c0,4.041) 1.75,4.5 cw(c0,4.959) -1.75,4.5 ; 3.25,4.5 cw(c5,4.041) 6.75,4.5 cw(c5,4.959) 3.25,4.5 ; 8.25,4.5 cw(c10,4.041) 11.75,4.5 cw(c10,4.959) 8.25,4.5 ; 13.25,4.5 cw(c15,4.041) 16.75,4.5 cw(c15,4.959) 13.25,4.5 ; 18.25,4.5 cw(c20,4.041) 21.75,4.5 cw(c20,4.959) 18.25,4.5 ; 23.25,4.5 cw(c25,4.041) 26.75,4.5 cw(c25,4.959) 23.25,4.5 ; 28.25,4.5 cw(c30,4.041) 31.75,4.5 cw(c30,4.959) 28.25,4.5 ; 33.25,4.5 cw(c35,4.041) 36.75,4.5 cw(c35,4.959) 33.25,4.5 ; 38.25,4.5 cw(c40,4.041) 41.75,4.5 cw(c40,4.959) 38.25,4.5 ; 43.25,4.5 cw(c45,4.041) 46.75,4.5 cw(c45,4.959) 43.25,4.5 ; 48.25,4.5 cw(c50,4.041) 51.75,4.5 cw(c50,4.959) 48.25,4.5 ; 53.25,4.5 cw(c55,4.041) 56.75,4.5 cw(c55,4.959) 53.25,4.5 ; 58.25,4.5 cw(c60,4.041) 61.75,4.5 cw(c60,4.959) 58.25,4.5 ; 63.25,4.5 cw(c65,4.041) 66.75,4.5 cw(c65,4.959) 63.25,4.5 ; 68.25,4.5 cw(c70,4.041) 71.75,4.5 cw(c70,4.959) 68.25,4.5 ; 73.25,4.5 cw(c75,4.041) 76.75,4.5 cw(c75,4.959) 73.25,4.5 ; 78.25,4.5 cw(c80,4.041) 81.75,4.5 cw(c80,4.959) 78.25,4.5 ; 83.25,4.5 cw(c85,4.041) 86.75,4.5 cw(c85,4.959) 83.25,4.5 ; 88.25,4.5 cw(c90,4.041) 91.75,4.5 cw(c90,4.959) 88.25,4.5 ; 93.25,4.5 cw(c95,4.041) 96.75,4.5 cw(c95,4.959) 93.25,4.5
F.Fab:
  lines w0.254: -2.5,0 97.5,0 ; -2.5,-4.5 -2.5,6 97.5,6 97.5,-6.5 -0.5,-6.5 -2.5,-4.5 ; -1.75,4.5 cw(c0,4.041) 1.75,4.5 cw(c0,4.959) -1.75,4.5 ; -1.35,-6 -1.35,-0.5 1.35,-0.5 1.35,-6 -1.35,-6 ; 3.25,4.5 cw(c5,4.041) 6.75,4.5 cw(c5,4.959) 3.25,4.5 ; 3.65,-6 3.65,-0.5 6.35,-0.5 6.35,-6 3.65,-6 ; 8.25,4.5 cw(c10,4.041) 11.75,4.5 cw(c10,4.959) 8.25,4.5 ; 8.65,-6 8.65,-0.5 11.351,-0.5 11.351,-6 8.65,-6 ; 13.25,4.5 cw(c15,4.041) 16.75,4.5 cw(c15,4.959) 13.25,4.5 ; 13.65,-6 13.65,-0.5 16.351,-0.5 16.351,-6 13.65,-6 ; 18.25,4.5 cw(c20,4.041) 21.75,4.5 cw(c20,4.959) 18.25,4.5 ; 18.65,-6 18.65,-0.5 21.35,-0.5 21.35,-6 18.65,-6 ; 23.25,4.5 cw(c25,4.041) 26.75,4.5 cw(c25,4.959) 23.25,4.5 ; 23.65,-6 23.65,-0.5 26.35,-0.5 26.35,-6 23.65,-6 ; 28.25,4.5 cw(c30,4.041) 31.75,4.5 cw(c30,4.959) 28.25,4.5 ; 28.65,-6 28.65,-0.5 31.35,-0.5 31.35,-6 28.65,-6 ; 33.25,4.5 cw(c35,4.041) 36.75,4.5 cw(c35,4.959) 33.25,4.5 ; 33.65,-6 33.65,-0.5 36.35,-0.5 36.35,-6 33.65,-6 ; 38.25,4.5 cw(c40,4.041) 41.75,4.5 cw(c40,4.959) 38.25,4.5 ; 38.65,-6 38.65,-0.5 41.35,-0.5 41.35,-6 38.65,-6 ; 43.25,4.5 cw(c45,4.041) 46.75,4.5 cw(c45,4.959) 43.25,4.5 ; 43.65,-6 43.65,-0.5 46.35,-0.5 46.35,-6 43.65,-6 ; 48.25,4.5 cw(c50,4.041) 51.75,4.5 cw(c50,4.959) 48.25,4.5 ; 48.65,-6 48.65,-0.5 51.35,-0.5 51.35,-6 48.65,-6 ; 53.25,4.5 cw(c55,4.041) 56.75,4.5 cw(c55,4.959) 53.25,4.5 ; 53.65,-6 53.65,-0.5 56.35,-0.5 56.35,-6 53.65,-6 ; 58.25,4.5 cw(c60,4.041) 61.75,4.5 cw(c60,4.959) 58.25,4.5 ; 58.65,-6 58.65,-0.5 61.35,-0.5 61.35,-6 58.65,-6 ; 63.25,4.5 cw(c65,4.041) 66.75,4.5 cw(c65,4.959) 63.25,4.5 ; 63.65,-6 63.65,-0.5 66.35,-0.5 66.35,-6 63.65,-6 ; 68.25,4.5 cw(c70,4.041) 71.75,4.5 cw(c70,4.959) 68.25,4.5 ; 68.65,-6 68.65,-0.5 71.35,-0.5 71.35,-6 68.65,-6 ; 73.25,4.5 cw(c75,4.041) 76.75,4.5 cw(c75,4.959) 73.25,4.5 ; 73.65,-6 73.65,-0.5 76.35,-0.5 76.35,-6 73.65,-6 ; 78.25,4.5 cw(c80,4.041) 81.75,4.5 cw(c80,4.959) 78.25,4.5 ; 78.65,-6 78.65,-0.5 81.35,-0.5 81.35,-6 78.65,-6 ; 83.25,4.5 cw(c85,4.041) 86.75,4.5 cw(c85,4.959) 83.25,4.5 ; 83.65,-6 83.65,-0.5 86.35,-0.5 86.35,-6 83.65,-6 ; 88.25,4.5 cw(c90,4.041) 91.75,4.5 cw(c90,4.959) 88.25,4.5 ; 88.65,-6 88.65,-0.5 91.35,-0.5 91.35,-6 88.65,-6 ; 93.25,4.5 cw(c95,4.041) 96.75,4.5 cw(c95,4.959) 93.25,4.5 ; 93.65,-6 93.65,-0.5 96.35,-0.5 96.35,-6 93.65,-6
  text "'.Designator'" at 43.453,0.11 h1
F.CrtYd:
  lines w0.254: -3,-7 -3,6.5 98,6.5 98,-7 -3,-7
3D body "Altech_AK300_1x20_P5.00mm_45-Degree.step": height 12.6, standoff -4.5, extent -2.5,-6.5 97.5,6

## Altech_AK300_1x21_P5.00mm_45-Degree [mm]
pads (21):
  rrect8% 3x3 hole 1.3: 1(0,0)
  round 3 hole 1.3: 2(5,0) 3(10,0) 4(15,0) 5(20,0) 6(25,0) 7(30,0) 8(35,0) 9(40,0) 10(45,0) 11(50,0) 12(55,0) 13(60,0) 14(65,0) 15(70,0) 16(75,0) 17(80,0) 18(85,0) 19(90,0) 20(95,0) 21(100,0)
F.SilkS:
  region: 0.44,-7.23 -0.44,-7.23 0,-6.62
  lines w0.254: -2.62,0 -1.98,0 ; -1.35,-1.98 -1.35,-6 1.35,-6 1.35,-1.98 ; -0.3,-6.62 -2.62,-6.62 -2.62,6.12 102.62,6.12 102.62,-6.62 0.3,-6.62 ; 1.98,0 3.02,0 ; 3.65,-1.448 3.65,-6 6.35,-6 6.35,-1.448 ; 6.98,0 8.02,0 ; 8.65,-1.448 8.65,-6 11.35,-6 11.35,-1.448 ; 11.98,0 13.02,0 ; 13.65,-1.448 13.65,-6 16.35,-6 16.35,-1.448 ; 16.98,0 18.02,0 ; 18.65,-1.448 18.65,-6 21.35,-6 21.35,-1.448 ; 21.98,0 23.02,0 ; 23.65,-1.448 23.65,-6 26.35,-6 26.35,-1.448 ; 26.98,0 28.02,0 ; 28.65,-1.448 28.65,-6 31.35,-6 31.35,-1.448 ; 31.98,0 33.02,0 ; 33.65,-1.448 33.65,-6 36.35,-6 36.35,-1.448 ; 36.98,0 38.02,0 ; 38.65,-1.448 38.65,-6 41.35,-6 41.35,-1.448 ; 41.98,0 43.02,0 ; 43.65,-1.448 43.65,-6 46.35,-6 46.35,-1.448 ; 46.98,0 48.02,0 ; 48.65,-1.448 48.65,-6 51.35,-6 51.35,-1.448 ; 51.98,0 53.02,0 ; 53.65,-1.448 53.65,-6 56.35,-6 56.35,-1.448 ; 56.98,0 58.02,0 ; 58.65,-1.448 58.65,-6 61.35,-6 61.35,-1.448 ; 61.98,0 63.02,0 ; 63.65,-1.448 63.65,-6 66.35,-6 66.35,-1.448 ; 66.98,0 68.02,0 ; 68.65,-1.448 68.65,-6 71.35,-6 71.35,-1.448 ; 71.98,0 73.02,0 ; 73.65,-1.448 73.65,-6 76.35,-6 76.35,-1.448 ; 76.98,0 78.02,0 ; 78.65,-1.448 78.65,-6 81.35,-6 81.35,-1.448 ; 81.98,0 83.02,0 ; 83.65,-1.448 83.65,-6 86.35,-6 86.35,-1.448 ; 86.98,0 88.02,0 ; 88.65,-1.448 88.65,-6 91.35,-6 91.35,-1.448 ; 91.98,0 93.02,0 ; 93.65,-1.448 93.65,-6 96.35,-6 96.35,-1.448 ; 96.98,0 98.02,0 ; 98.65,-1.448 98.65,-6 101.35,-6 101.35,-1.448 ; 101.98,0 102.62,0 ; -1.75,4.5 cw(c0,4.041) 1.75,4.5 cw(c0,4.959) -1.75,4.5 ; 3.25,4.5 cw(c5,4.041) 6.75,4.5 cw(c5,4.959) 3.25,4.5 ; 8.25,4.5 cw(c10,4.041) 11.75,4.5 cw(c10,4.959) 8.25,4.5 ; 13.25,4.5 cw(c15,4.041) 16.75,4.5 cw(c15,4.959) 13.25,4.5 ; 18.25,4.5 cw(c20,4.041) 21.75,4.5 cw(c20,4.959) 18.25,4.5 ; 23.25,4.5 cw(c25,4.041) 26.75,4.5 cw(c25,4.959) 23.25,4.5 ; 28.25,4.5 cw(c30,4.041) 31.75,4.5 cw(c30,4.959) 28.25,4.5 ; 33.25,4.5 cw(c35,4.041) 36.75,4.5 cw(c35,4.959) 33.25,4.5 ; 38.25,4.5 cw(c40,4.041) 41.75,4.5 cw(c40,4.959) 38.25,4.5 ; 43.25,4.5 cw(c45,4.041) 46.75,4.5 cw(c45,4.959) 43.25,4.5 ; 48.25,4.5 cw(c50,4.041) 51.75,4.5 cw(c50,4.959) 48.25,4.5 ; 53.25,4.5 cw(c55,4.041) 56.75,4.5 cw(c55,4.959) 53.25,4.5 ; 58.25,4.5 cw(c60,4.041) 61.75,4.5 cw(c60,4.959) 58.25,4.5 ; 63.25,4.5 cw(c65,4.041) 66.75,4.5 cw(c65,4.959) 63.25,4.5 ; 68.25,4.5 cw(c70,4.041) 71.75,4.5 cw(c70,4.959) 68.25,4.5 ; 73.25,4.5 cw(c75,4.041) 76.75,4.5 cw(c75,4.959) 73.25,4.5 ; 78.25,4.5 cw(c80,4.041) 81.75,4.5 cw(c80,4.959) 78.25,4.5 ; 83.25,4.5 cw(c85,4.041) 86.75,4.5 cw(c85,4.959) 83.25,4.5 ; 88.25,4.5 cw(c90,4.041) 91.75,4.5 cw(c90,4.959) 88.25,4.5 ; 93.25,4.5 cw(c95,4.041) 96.75,4.5 cw(c95,4.959) 93.25,4.5 ; 98.25,4.5 cw(c100,4.041) 101.75,4.5 cw(c100,4.959) 98.25,4.5
F.Fab:
  lines w0.254: -2.5,0 102.5,0 ; -2.5,-4.5 -2.5,6 102.5,6 102.5,-6.5 -0.5,-6.5 -2.5,-4.5 ; -1.75,4.5 cw(c0,4.041) 1.75,4.5 cw(c0,4.959) -1.75,4.5 ; -1.35,-6 -1.35,-0.5 1.35,-0.5 1.35,-6 -1.35,-6 ; 3.25,4.5 cw(c5,4.041) 6.75,4.5 cw(c5,4.959) 3.25,4.5 ; 3.65,-6 3.65,-0.5 6.35,-0.5 6.35,-6 3.65,-6 ; 8.25,4.5 cw(c10,4.041) 11.75,4.5 cw(c10,4.959) 8.25,4.5 ; 8.65,-6 8.65,-0.5 11.351,-0.5 11.351,-6 8.65,-6 ; 13.25,4.5 cw(c15,4.041) 16.75,4.5 cw(c15,4.959) 13.25,4.5 ; 13.65,-6 13.65,-0.5 16.351,-0.5 16.351,-6 13.65,-6 ; 18.25,4.5 cw(c20,4.041) 21.75,4.5 cw(c20,4.959) 18.25,4.5 ; 18.65,-6 18.65,-0.5 21.35,-0.5 21.35,-6 18.65,-6 ; 23.25,4.5 cw(c25,4.041) 26.75,4.5 cw(c25,4.959) 23.25,4.5 ; 23.65,-6 23.65,-0.5 26.35,-0.5 26.35,-6 23.65,-6 ; 28.25,4.5 cw(c30,4.041) 31.75,4.5 cw(c30,4.959) 28.25,4.5 ; 28.65,-6 28.65,-0.5 31.35,-0.5 31.35,-6 28.65,-6 ; 33.25,4.5 cw(c35,4.041) 36.75,4.5 cw(c35,4.959) 33.25,4.5 ; 33.65,-6 33.65,-0.5 36.35,-0.5 36.35,-6 33.65,-6 ; 38.25,4.5 cw(c40,4.041) 41.75,4.5 cw(c40,4.959) 38.25,4.5 ; 38.65,-6 38.65,-0.5 41.35,-0.5 41.35,-6 38.65,-6 ; 43.25,4.5 cw(c45,4.041) 46.75,4.5 cw(c45,4.959) 43.25,4.5 ; 43.65,-6 43.65,-0.5 46.35,-0.5 46.35,-6 43.65,-6 ; 48.25,4.5 cw(c50,4.041) 51.75,4.5 cw(c50,4.959) 48.25,4.5 ; 48.65,-6 48.65,-0.5 51.35,-0.5 51.35,-6 48.65,-6 ; 53.25,4.5 cw(c55,4.041) 56.75,4.5 cw(c55,4.959) 53.25,4.5 ; 53.65,-6 53.65,-0.5 56.35,-0.5 56.35,-6 53.65,-6 ; 58.25,4.5 cw(c60,4.041) 61.75,4.5 cw(c60,4.959) 58.25,4.5 ; 58.65,-6 58.65,-0.5 61.35,-0.5 61.35,-6 58.65,-6 ; 63.25,4.5 cw(c65,4.041) 66.75,4.5 cw(c65,4.959) 63.25,4.5 ; 63.65,-6 63.65,-0.5 66.35,-0.5 66.35,-6 63.65,-6 ; 68.25,4.5 cw(c70,4.041) 71.75,4.5 cw(c70,4.959) 68.25,4.5 ; 68.65,-6 68.65,-0.5 71.35,-0.5 71.35,-6 68.65,-6 ; 73.25,4.5 cw(c75,4.041) 76.75,4.5 cw(c75,4.959) 73.25,4.5 ; 73.65,-6 73.65,-0.5 76.35,-0.5 76.35,-6 73.65,-6 ; 78.25,4.5 cw(c80,4.041) 81.75,4.5 cw(c80,4.959) 78.25,4.5 ; 78.65,-6 78.65,-0.5 81.35,-0.5 81.35,-6 78.65,-6 ; 83.25,4.5 cw(c85,4.041) 86.75,4.5 cw(c85,4.959) 83.25,4.5 ; 83.65,-6 83.65,-0.5 86.35,-0.5 86.35,-6 83.65,-6 ; 88.25,4.5 cw(c90,4.041) 91.75,4.5 cw(c90,4.959) 88.25,4.5 ; 88.65,-6 88.65,-0.5 91.35,-0.5 91.35,-6 88.65,-6 ; 93.25,4.5 cw(c95,4.041) 96.75,4.5 cw(c95,4.959) 93.25,4.5 ; 93.65,-6 93.65,-0.5 96.35,-0.5 96.35,-6 93.65,-6 ; 98.25,4.5 cw(c100,4.041) 101.75,4.5 cw(c100,4.959) 98.25,4.5 ; 98.65,-6 98.65,-0.5 101.35,-0.5 101.35,-6 98.65,-6
  text "'.Designator'" at 45.953,0.11 h1
F.CrtYd:
  lines w0.254: -3,-7 -3,6.5 103,6.5 103,-7 -3,-7
3D body "Altech_AK300_1x21_P5.00mm_45-Degree.step": height 12.6, standoff -4.5, extent -2.5,-6.5 102.5,6